# EAGLE library part SD103ATW-7-F (library graftel-internal-ic)
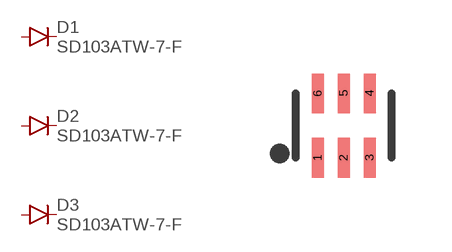
[diagram p9: symbol with the pads of SOT363; footprint SOT363]

Designator prefix D; gates 1=DIODE 2=DIODE 3=DIODE

## SD103ATW-7-F  [SOT363]
1  1:C  pas
2  2:C  pas
3  3:C  pas
4  3:A  pas
5  2:A  pas
6  1:A  pas

## Footprint SOT363 (pad centres in mm)
smd 0.3 x 0.99: 1 -0.65,-0.8; 2 0,-0.8; 3 0.65,-0.8; 4 0.65,0.81; 5 0,0.81; 6 -0.65,0.81